# EAGLE library part CTS_SERIES_252 (library joystick-cts)
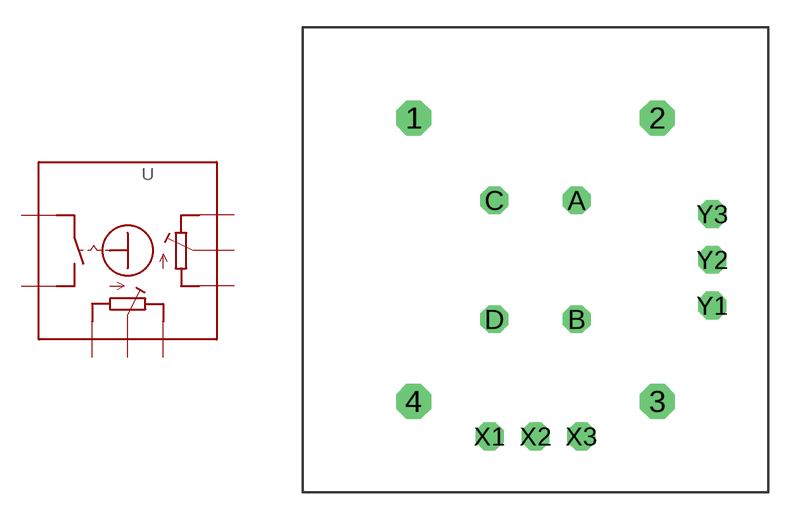
[diagram p0: symbol with the pads of SERIES252; footprint SERIES252]

Designator prefix -

## CTS_SERIES_252  [SERIES252]
A  A
B  B
C  C
D  D
X1  X1
X2  X2
X3  X3
Y1  Y1
Y2  Y2
Y3  Y3

## Footprint SERIES252 (pad centres in mm)
drill 1.27 octagon: 1 -6.655,7.747; 2 6.655,7.747; 3 6.655,-7.747; 4 -6.655,-7.747
drill 1.016 octagon: A 2.248,3.251; B 2.248,-3.251; C -2.248,3.251; D -2.248,-3.251; X1 -2.502,-9.652; X2 0,-9.652; X3 2.502,-9.652; Y1 9.652,-2.502; Y2 9.652,0; Y3 9.652,2.502